# Altium footprint library Electrolytic Capacitor.PcbLib: 26 footprints (part 1 of 2)
Each footprint in its own frame and in the unit in brackets; x right, y up, seen from the top. Pads: shape width x height; smd on the part's side, far side on the other; paste and mask are expansions set on the pad; w line width, h text height; cw(c..) or ccw(c..) is an arc to the next point about the centre after c.
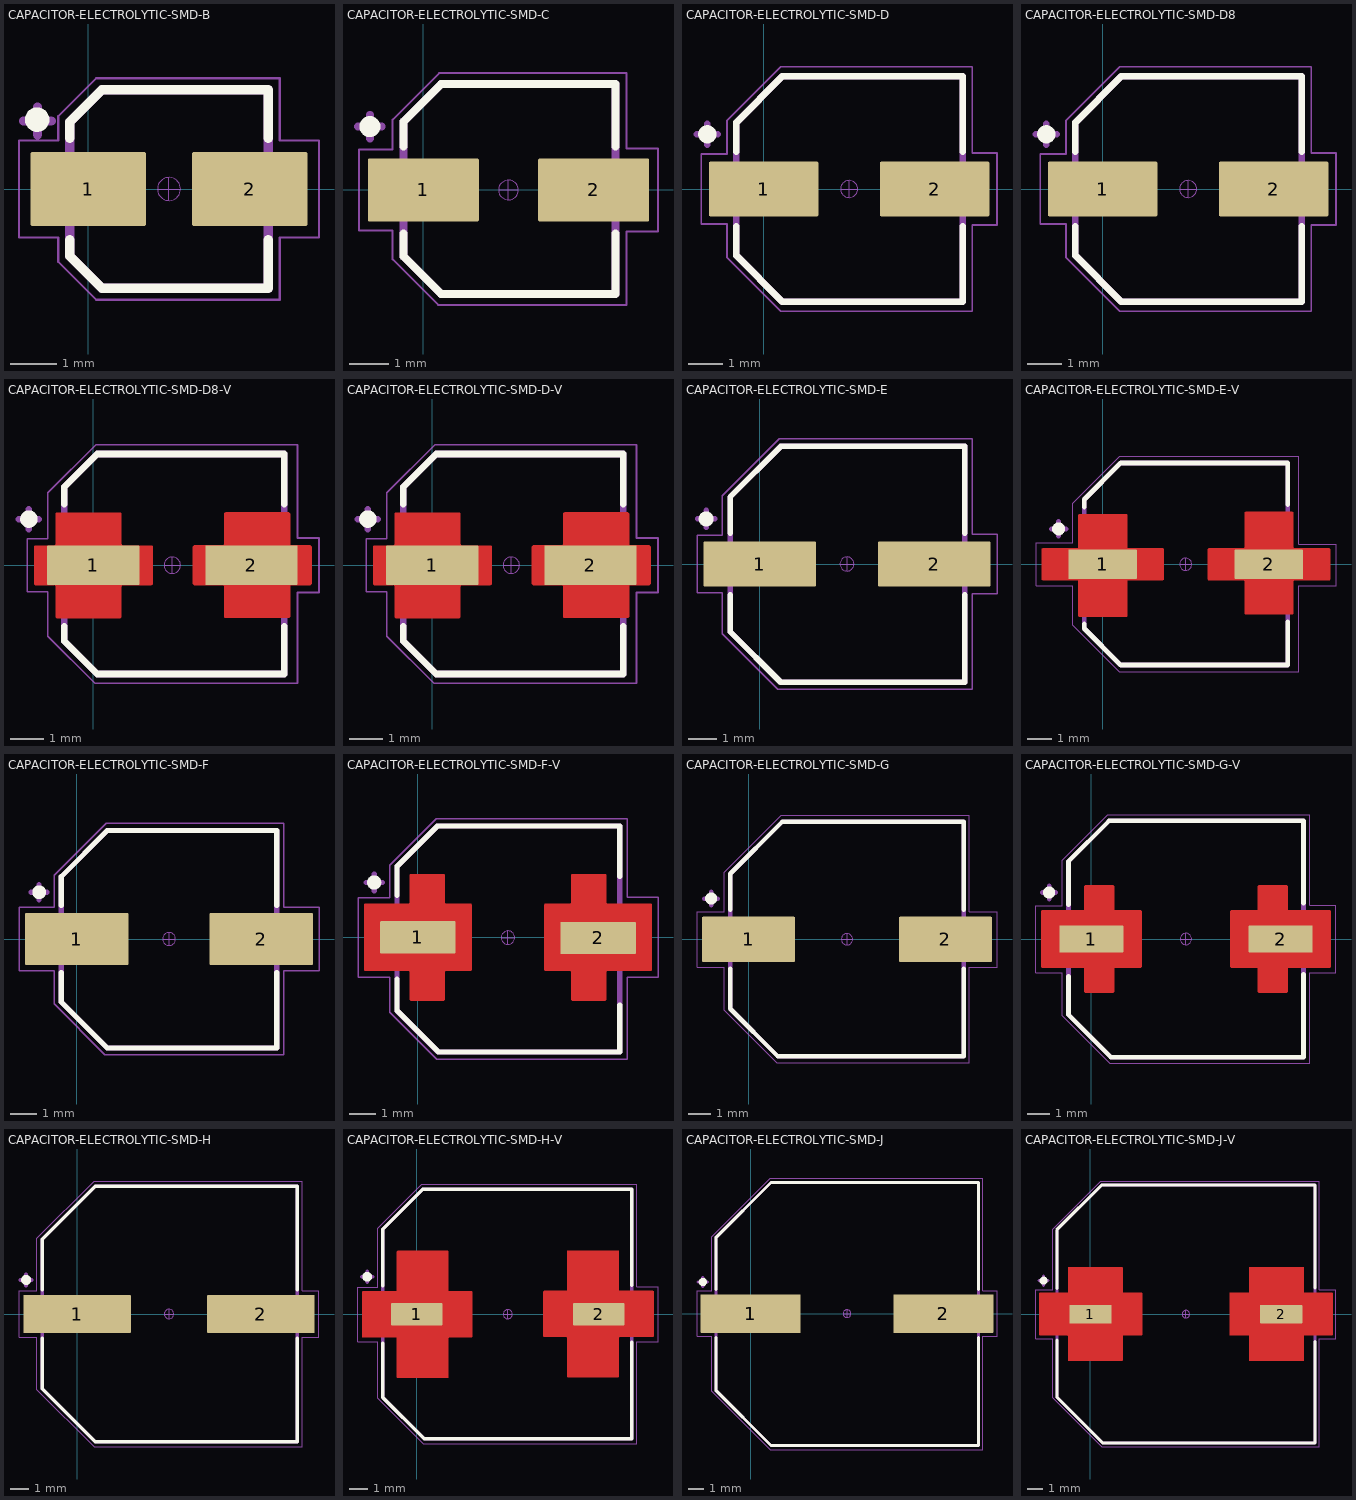
[diagram p0: the footprints below, top view; thin cyan lines are the x and y axes]

## CAPACITOR-ELECTROLYTIC-SMD-B [mm] "Electrolytic Capacitor SMD Size B ( ? 4mm )"
height 5.405
pads (2):
  rrect5% 2.5x1.6 smd mask+0.05: 1(0,0) 2(3.5,0)
Top Overlay:
  circle w0.27: c-1.105,1.503 r0.13
  lines w0.2: -0.4,-1.1 -0.4,-1.45 0.3,-2.15 3.9,-2.15 3.9,-1.1 ; -0.4,1.1 -0.4,1.45 0.3,2.15 3.9,2.15 3.9,1.1
Top Component Outline:
  lines w0.2: -1.4,1.475 -0.8,1.475 ; -1.1,1.175 -1.1,1.775 ; -0.4,-1.45 0.3,-2.15 3.9,-2.15 3.9,2.15 0.3,2.15 -0.4,1.45 -0.4,-1.45
  text "'.Comment'" at -0.476,-1.927 h1
Top Courtyard:
  lines w0.05: -1.5,-1.05 -1.5,1.05 -0.65,1.05 -0.65,1.575 0.175,2.4 4.15,2.4 4.15,1.05 5,1.05 5,-1.05 4.15,-1.05 4.15,-2.4 0.175,-2.4 -0.65,-1.575 -0.65,-1.05 -1.5,-1.05
Top Component Center:
  circle w0.012: c1.75,0 r0.25
  lines w0.012: 1.5,0 1.75,0 ; 1.75,-0.25 1.75,0 ; 1.75,0.25 1.75,0 ; 2,0 1.75,0
Top Designator:
  text "'.Designator'" at -0.692,-0.224 h1
Top Assembly (Mech16):
  lines w0.2: -1.4,1.475 -0.8,1.475 ; -1.1,1.175 -1.1,1.775 ; -0.4,-1.45 0.3,-2.15 3.9,-2.15 3.9,2.15 0.3,2.15 -0.4,1.45 -0.4,-1.45
  text "'.Designator'" at -0.692,-0.224 h1
3D body "CAPACITOR-B.step": height 5.41, standoff -0.01, extent -0.55,-2.15 4.05,2.15

## CAPACITOR-ELECTROLYTIC-SMD-C [mm] "Electrolytic Capacitor SMD Size C ( ? 5mm )"
height 5.405
pads (2):
  rrect5% 2.8x1.6 smd mask+0.05: 1(0,0) 2(4.3,0)
Top Overlay:
  circle w0.27: c-1.35,1.6 r0.13
  lines w0.2: -0.5,-1.1 -0.5,-1.675 0.45,-2.625 4.85,-2.625 4.85,-1.1 ; -0.5,1.1 -0.5,1.725 0.45,2.675 4.85,2.675 4.85,1.1
Top Component Outline:
  lines w0.2: -1.65,1.6 -1.05,1.6 ; -1.35,1.3 -1.35,1.9 ; -0.5,-1.675 -0.5,1.725 0.45,2.675 4.85,2.675 4.85,-2.625 0.45,-2.625 -0.5,-1.675
  text "'.Comment'" at -0.076,-1.927 h1
Top Courtyard:
  lines w0.05: -1.625,-1.025 -0.775,-1.025 -0.775,-1.75 0.375,-2.9 5.125,-2.9 5.125,-1.05 5.925,-1.05 5.925,1.05 5.125,1.05 5.125,2.95 0.4,2.95 -0.775,1.775 -0.775,1.025 -1.625,1.025 -1.625,-1.025
Top Component Center:
  circle w0.012: c2.15,0 r0.25
  lines w0.012: 1.9,0 2.15,0 ; 2.15,-0.25 2.15,0 ; 2.15,0.25 2.15,0 ; 2.4,0 2.15,0
Top Designator:
  text "'.Designator'" at -0.292,-0.224 h1
Top Assembly (Mech16):
  lines w0.2: -1.65,1.6 -1.05,1.6 ; -1.35,1.3 -1.35,1.9 ; -0.5,-1.675 -0.5,1.725 0.45,2.675 4.85,2.675 4.85,-2.625 0.45,-2.625 -0.5,-1.675
  text "'.Designator'" at -0.292,-0.224 h1
3D body "CAPACITOR-C.step": height 5.41, standoff -0.01, extent -0.8,-2.65 5.1,2.65

## CAPACITOR-ELECTROLYTIC-SMD-D [mm] "Electrolytic Capacitor SMD Size D ( ? 6.3mm )"
height 5.405
pads (2):
  rrect5% 3.2x1.6 smd mask+0.05: 1(0,0) 2(5,0)
Top Overlay:
  circle w0.27: c-1.65,1.6 r0.13
  lines w0.2: -0.8,-1.1 -0.8,-1.95 0.55,-3.3 5.825,-3.3 5.825,-1.1 ; -0.8,1.1 -0.8,1.95 0.55,3.3 5.825,3.3 5.825,1.1
Top Component Outline:
  lines w0.2: -1.95,1.6 -1.35,1.6 ; -1.65,1.3 -1.65,1.9 ; -0.8,-1.95 -0.8,1.95 0.55,3.3 5.825,3.3 5.825,-3.3 0.55,-3.3 -0.8,-1.95
  text "'.Comment'" at 0.274,-2.677 h1
Top Courtyard:
  lines w0.05: -1.825,-1.025 -1.075,-1.025 -1.075,-2 0.5,-3.575 6.1,-3.575 6.1,-1.05 6.825,-1.05 6.825,1.05 6.1,1.05 6.1,3.575 0.5,3.575 -1.075,2 -1.075,1.025 -1.825,1.025 -1.825,-1.025
Top Component Center:
  circle w0.012: c2.5,0 r0.25
  lines w0.012: 2.25,0 2.5,0 ; 2.5,-0.25 2.5,0 ; 2.5,0.25 2.5,0 ; 2.75,0 2.5,0
Top Designator:
  text "'.Designator'" at 0.058,-0.224 h1
Top Assembly (Mech16):
  lines w0.2: -1.95,1.6 -1.35,1.6 ; -1.65,1.3 -1.65,1.9 ; -0.8,-1.95 0.55,-3.3 5.825,-3.3 5.825,3.3 0.55,3.3 -0.8,1.95 -0.8,-1.95
  text "'.Designator'" at 0.058,-0.224 h1
3D body "CAPACITOR-D.step": height 5.41, standoff -0.01, extent -1,-3.3 6,3.3

## CAPACITOR-ELECTROLYTIC-SMD-D8 [mm] "Electrolytic Capacitor SMD Size D8 ( ? 6.3mm x 7.7mm L )"
height 7.705
pads (2):
  rrect5% 3.2x1.6 smd mask+0.05: 1(0,0) 2(5,0)
Top Overlay:
  circle w0.27: c-1.65,1.6 r0.13
  lines w0.2: -0.8,-1.1 -0.8,-1.95 0.55,-3.3 5.825,-3.3 5.825,-1.1 ; -0.8,1.1 -0.8,1.95 0.55,3.3 5.825,3.3 5.825,1.1
Top Component Outline:
  lines w0.2: -1.95,1.6 -1.35,1.6 ; -1.65,1.3 -1.65,1.9 ; -0.8,-1.95 0.55,-3.3 5.825,-3.3 5.825,3.3 0.55,3.3 -0.8,1.95 -0.8,-1.95
  text "'.Comment'" at 0.274,-2.677 h1
Top Courtyard:
  lines w0.05: -1.825,-1.025 -1.825,1.025 -1.075,1.025 -1.075,2 0.5,3.575 6.1,3.575 6.1,1.05 6.825,1.05 6.825,-1.05 6.1,-1.05 6.1,-3.575 0.5,-3.575 -1.075,-2 -1.075,-1.025 -1.825,-1.025
Top Component Center:
  circle w0.012: c2.5,0 r0.25
  lines w0.012: 2.25,0 2.5,0 ; 2.5,-0.25 2.5,0 ; 2.5,0.25 2.5,0 ; 2.75,0 2.5,0
Top Designator:
  text "'.Designator'" at 0.058,-0.224 h1
Top Assembly (Mech16):
  lines w0.2: -1.95,1.6 -1.35,1.6 ; -1.65,1.3 -1.65,1.9 ; -0.8,-1.95 0.55,-3.3 5.825,-3.3 5.825,3.3 0.55,3.3 -0.8,1.95 -0.8,-1.95
  text "'.Designator'" at 0.058,-0.224 h1
3D body "CAPACITOR-D8.step": height 7.71, standoff -0.01, extent -1,-3.3 6,3.3

## CAPACITOR-ELECTROLYTIC-SMD-D8-V [mm] "Electrolytic Capacitor SMD Size D8 Anti-Vibration ( ? 6.3mm x 8.0mm L )"
height 8.001
pads (2):
  rrect5% 2.8x1.2 smd mask+0.05: 1(0,0) 2(4.8,0)
Top Layer:
  region: 3.075,0.6 3.925,0.6 3.935,0.601 3.953,0.608 3.967,0.622 3.974,0.64 3.975,0.65 3.975,1.55 3.975,1.56 3.983,1.578 3.997,1.592 4.015,1.6 4.025,1.6 5.925,1.6 5.935,1.6 5.953,1.592 5.967,1.578 5.975,1.56 5.975,1.55 5.975,0.65 5.976,0.64 5.983,0.622 5.997,0.608 6.015,0.601 6.025,0.6 6.575,0.6 6.585,0.6 6.603,0.592 6.617,0.578 6.625,0.56 6.625,0.55 6.625,-0.55 6.625,-0.56 6.617,-0.578 6.603,-0.592 6.585,-0.6 6.575,-0.6 6.025,-0.6 6.015,-0.601 5.997,-0.608 5.983,-0.622 5.976,-0.64 5.975,-0.65 5.975,-1.55 5.975,-1.56 5.967,-1.578 5.953,-1.592 5.935,-1.6 5.925,-1.6 4.025,-1.6 4.015,-1.6 3.997,-1.592 3.983,-1.578 3.975,-1.56 3.975,-1.55 3.975,-0.65 3.974,-0.64 3.967,-0.622 3.953,-0.608 3.935,-0.601 3.925,-0.6 3.075,-0.6 3.065,-0.6 3.047,-0.592 3.033,-0.578 3.025,-0.56 3.025,-0.55 3.025,0.55 3.025,0.56 3.033,0.578 3.047,0.592 3.065,0.6
  region: 1.758,-0.603 0.908,-0.603 0.899,-0.604 0.881,-0.611 0.867,-0.625 0.859,-0.643 0.858,-0.653 0.858,-1.553 0.858,-1.563 0.851,-1.581 0.837,-1.595 0.818,-1.603 0.808,-1.603 -1.092,-1.603 -1.102,-1.603 -1.12,-1.595 -1.134,-1.581 -1.142,-1.563 -1.142,-1.553 -1.142,-0.653 -1.143,-0.643 -1.15,-0.625 -1.164,-0.611 -1.182,-0.604 -1.192,-0.603 -1.742,-0.603 -1.752,-0.603 -1.77,-0.595 -1.784,-0.581 -1.792,-0.563 -1.792,-0.553 -1.792,0.547 -1.792,0.557 -1.784,0.576 -1.77,0.59 -1.752,0.597 -1.742,0.597 -1.192,0.597 -1.182,0.598 -1.164,0.606 -1.15,0.619 -1.143,0.637 -1.142,0.647 -1.142,1.547 -1.142,1.557 -1.134,1.576 -1.12,1.59 -1.102,1.597 -1.092,1.597 0.808,1.597 0.818,1.597 0.837,1.59 0.851,1.576 0.858,1.557 0.858,1.547 0.858,0.647 0.859,0.637 0.867,0.619 0.881,0.606 0.899,0.598 0.908,0.597 1.758,0.597 1.768,0.597 1.787,0.59 1.801,0.576 1.808,0.557 1.808,0.547 1.808,-0.553 1.808,-0.563 1.801,-0.581 1.787,-0.595 1.768,-0.603
Top Overlay:
  circle w0.27: c-1.95,1.4 r0.13
  lines w0.2: -0.875,-1.85 -0.875,-2.3 0.125,-3.3 5.8,-3.3 5.8,-1.85 ; -0.875,1.85 -0.875,2.375 0.125,3.375 5.8,3.375 5.8,1.85
Top Component Outline:
  lines w0.2: -2.25,1.4 -1.65,1.4 ; -1.95,1.1 -1.95,1.7 ; -0.875,-2.3 0.125,-3.3 5.8,-3.3 5.8,3.375 0.125,3.375 -0.875,2.375 -0.875,-2.3
  text "'.Comment'" at 0.174,-2.677 h1
Top Courtyard:
  lines w0.05: -2,-0.8 -2,0.8 -1.375,0.8 -1.375,2.2 0.075,3.65 6.2,3.65 6.2,0.825 6.85,0.825 6.85,-0.825 6.2,-0.825 6.2,-3.575 0.05,-3.575 -1.375,-2.15 -1.375,-0.8 -2,-0.8
Top Component Center:
  circle w0.012: c2.4,0 r0.25
  lines w0.012: 2.15,0 2.4,0 ; 2.4,-0.25 2.4,0 ; 2.4,0.25 2.4,0 ; 2.65,0 2.4,0
Top Designator:
  text "'.Designator'" at -0.042,-0.224 h1
Top Assembly (Mech16):
  lines w0.2: -2.25,1.4 -1.65,1.4 ; -1.95,1.1 -1.95,1.7 ; -0.875,-2.3 0.125,-3.3 5.8,-3.3 5.8,3.375 0.125,3.375 -0.875,2.375 -0.875,-2.3
  text "'.Designator'" at -0.042,-0.224 h1
3D body "CAPACITOR-D8-V.stp": height 8, standoff 0, extent -1.25,-3.3 6.05,3.3

## CAPACITOR-ELECTROLYTIC-SMD-D-V [mm] "Electrolytic Capacitor SMD Size D Anti-Vibration ( ? 6.3mm x 6.1mm L )"
height 6.101
pads (2):
  rrect5% 2.8x1.2 smd mask+0.05: 1(0,0) 2(4.8,0)
Top Layer:
  region: 1.758,-0.603 0.908,-0.603 0.899,-0.604 0.881,-0.611 0.867,-0.625 0.859,-0.643 0.858,-0.653 0.858,-1.553 0.858,-1.563 0.851,-1.581 0.837,-1.595 0.818,-1.603 0.808,-1.603 -1.092,-1.603 -1.102,-1.603 -1.12,-1.595 -1.134,-1.581 -1.142,-1.563 -1.142,-1.553 -1.142,-0.653 -1.143,-0.643 -1.15,-0.625 -1.164,-0.611 -1.182,-0.604 -1.192,-0.603 -1.742,-0.603 -1.752,-0.603 -1.77,-0.595 -1.784,-0.581 -1.792,-0.563 -1.792,-0.553 -1.792,0.547 -1.792,0.557 -1.784,0.576 -1.77,0.59 -1.752,0.597 -1.742,0.597 -1.192,0.597 -1.182,0.598 -1.164,0.606 -1.15,0.619 -1.143,0.637 -1.142,0.647 -1.142,1.547 -1.142,1.557 -1.134,1.576 -1.12,1.59 -1.102,1.597 -1.092,1.597 0.808,1.597 0.818,1.597 0.837,1.59 0.851,1.576 0.858,1.557 0.858,1.547 0.858,0.647 0.859,0.637 0.867,0.619 0.881,0.606 0.899,0.598 0.908,0.597 1.758,0.597 1.768,0.597 1.787,0.59 1.801,0.576 1.808,0.557 1.808,0.547 1.808,-0.553 1.808,-0.563 1.801,-0.581 1.787,-0.595 1.768,-0.603
  region: 3.075,0.6 3.925,0.6 3.935,0.601 3.953,0.608 3.967,0.622 3.974,0.64 3.975,0.65 3.975,1.55 3.975,1.56 3.983,1.578 3.997,1.592 4.015,1.6 4.025,1.6 5.925,1.6 5.935,1.6 5.953,1.592 5.967,1.578 5.975,1.56 5.975,1.55 5.975,0.65 5.976,0.64 5.983,0.622 5.997,0.608 6.015,0.601 6.025,0.6 6.575,0.6 6.585,0.6 6.603,0.592 6.617,0.578 6.625,0.56 6.625,0.55 6.625,-0.55 6.625,-0.56 6.617,-0.578 6.603,-0.592 6.585,-0.6 6.575,-0.6 6.025,-0.6 6.015,-0.601 5.997,-0.608 5.983,-0.622 5.976,-0.64 5.975,-0.65 5.975,-1.55 5.975,-1.56 5.967,-1.578 5.953,-1.592 5.935,-1.6 5.925,-1.6 4.025,-1.6 4.015,-1.6 3.997,-1.592 3.983,-1.578 3.975,-1.56 3.975,-1.55 3.975,-0.65 3.974,-0.64 3.967,-0.622 3.953,-0.608 3.935,-0.601 3.925,-0.6 3.075,-0.6 3.065,-0.6 3.047,-0.592 3.033,-0.578 3.025,-0.56 3.025,-0.55 3.025,0.55 3.025,0.56 3.033,0.578 3.047,0.592 3.065,0.6
Top Overlay:
  circle w0.27: c-1.95,1.4 r0.13
  lines w0.2: -0.875,-1.85 -0.875,-2.3 0.125,-3.3 5.8,-3.3 5.8,-1.85 ; -0.875,1.85 -0.875,2.375 0.125,3.375 5.8,3.375 5.8,1.85
Top Component Outline:
  lines w0.2: -2.25,1.4 -1.65,1.4 ; -1.95,1.1 -1.95,1.7 ; -0.875,-2.3 -0.875,2.375 0.125,3.375 5.8,3.375 5.8,-3.3 0.125,-3.3 -0.875,-2.3
  text "'.Comment'" at 0.174,-2.677 h1
Top Courtyard:
  lines w0.05: -2,-0.8 -1.375,-0.8 -1.375,-2.15 0.05,-3.575 6.2,-3.575 6.2,-0.825 6.85,-0.825 6.85,0.825 6.2,0.825 6.2,3.65 0.075,3.65 -1.375,2.2 -1.375,0.8 -2,0.8 -2,-0.8
Top Component Center:
  circle w0.012: c2.4,0 r0.25
  lines w0.012: 2.15,0 2.4,0 ; 2.4,-0.25 2.4,0 ; 2.4,0.25 2.4,0 ; 2.65,0 2.4,0
Top Designator:
  text "'.Designator'" at -0.042,-0.224 h1
Top Assembly (Mech16):
  lines w0.2: -2.25,1.4 -1.65,1.4 ; -1.95,1.1 -1.95,1.7 ; -0.875,-2.3 -0.875,2.375 0.125,3.375 5.8,3.375 5.8,-3.3 0.125,-3.3 -0.875,-2.3
  text "'.Designator'" at -0.042,-0.224 h1
3D body "CAPACITOR-D-V.stp": height 6.1, standoff 0, extent -1.25,-3.3 6.05,3.3

## CAPACITOR-ELECTROLYTIC-SMD-E [mm] "Electrolytic Capacitor SMD Size E ( ? 8mm x 6.2mm L )"
height 6.205
pads (2):
  rrect5% 4x1.6 smd mask+0.05: 1(0,0) 2(6.2,0)
Top Overlay:
  circle w0.27: c-1.9,1.6 r0.13
  lines w0.2: -1.05,-1.1 -1.05,-2.4 0.75,-4.2 7.275,-4.2 7.275,-1.1 ; -1.05,1.1 -1.05,2.375 0.75,4.175 7.275,4.175 7.275,1.1
Top Component Outline:
  lines w0.2: -2.2,1.6 -1.6,1.6 ; -1.9,1.3 -1.9,1.9 ; -1.05,-2.4 -1.05,2.375 0.75,4.175 7.275,4.175 7.275,-4.2 0.75,-4.2 -1.05,-2.4
  text "'.Comment'" at 0.874,-3.302 h1
Top Courtyard:
  lines w0.05: -2.225,-1.025 -1.325,-1.025 -1.325,-2.475 0.65,-4.45 7.55,-4.45 7.55,-1.05 8.425,-1.05 8.425,1.05 7.55,1.05 7.55,4.45 0.7,4.45 -1.325,2.425 -1.325,1.025 -2.225,1.025 -2.225,-1.025
Top Component Center:
  circle w0.012: c3.1,0 r0.25
  lines w0.012: 2.85,0 3.1,0 ; 3.1,-0.25 3.1,0 ; 3.1,0.25 3.1,0 ; 3.35,0 3.1,0
Top Designator:
  text "'.Designator'" at 0.058,-0.224 h1
Top Assembly (Mech16):
  lines w0.2: -2.2,1.6 -1.6,1.6 ; -1.9,1.3 -1.9,1.9 ; -1.05,-2.4 -1.05,2.375 0.75,4.175 7.275,4.175 7.275,-4.2 0.75,-4.2 -1.05,-2.4
  text "'.Designator'" at 0.658,-0.224 h1
3D body "CAPACITOR-E.step": height 6.2, standoff -0.01, extent -1.4,-4.15 7.6,4.15

## CAPACITOR-ELECTROLYTIC-SMD-E-V [mm] "Electrolytic Capacitor SMD Size E Anti-Vibration ( ? 8mm x 6.5mm L )"
height 6.501
pads (2):
  rrect5% 2.8x1.2 smd mask+0.05: 1(0,0) 2(6.8,0)
Top Layer:
  region: 9.258,0.647 7.858,0.647 7.849,0.648 7.831,0.656 7.817,0.669 7.809,0.687 7.808,0.697 7.808,2.097 7.808,2.107 7.801,2.126 7.787,2.14 7.768,2.147 7.758,2.147 5.858,2.147 5.848,2.147 5.83,2.14 5.816,2.126 5.808,2.107 5.808,2.097 5.808,0.697 5.807,0.687 5.8,0.669 5.786,0.656 5.768,0.648 5.758,0.647 4.358,0.647 4.348,0.647 4.33,0.64 4.316,0.626 4.308,0.607 4.308,0.597 4.308,-0.603 4.308,-0.613 4.316,-0.631 4.33,-0.645 4.348,-0.653 4.358,-0.653 5.758,-0.653 5.768,-0.654 5.786,-0.661 5.8,-0.675 5.807,-0.693 5.808,-0.703 5.808,-2.003 5.808,-2.013 5.816,-2.031 5.83,-2.045 5.848,-2.053 5.858,-2.053 7.758,-2.053 7.768,-2.053 7.787,-2.045 7.801,-2.031 7.808,-2.013 7.808,-2.003 7.808,-0.703 7.809,-0.693 7.817,-0.675 7.831,-0.661 7.849,-0.654 7.858,-0.653 9.258,-0.653 9.268,-0.653 9.287,-0.645 9.301,-0.631 9.308,-0.613 9.308,-0.603 9.308,0.597 9.308,0.607 9.301,0.626 9.287,0.64 9.268,0.647
  region: -2.442,-0.647 -1.042,-0.647 -1.032,-0.648 -1.014,-0.656 -1,-0.669 -0.993,-0.687 -0.992,-0.697 -0.992,-2.097 -0.992,-2.107 -0.984,-2.126 -0.97,-2.14 -0.952,-2.147 -0.942,-2.147 0.958,-2.147 0.968,-2.147 0.987,-2.14 1.001,-2.126 1.008,-2.107 1.008,-2.097 1.008,-0.697 1.009,-0.687 1.017,-0.669 1.031,-0.656 1.049,-0.648 1.058,-0.647 2.458,-0.647 2.468,-0.647 2.487,-0.64 2.501,-0.626 2.508,-0.607 2.508,-0.597 2.508,0.603 2.508,0.613 2.501,0.631 2.487,0.645 2.468,0.653 2.458,0.653 1.058,0.653 1.049,0.654 1.031,0.661 1.017,0.675 1.009,0.693 1.008,0.703 1.008,2.003 1.008,2.013 1.001,2.031 0.987,2.045 0.968,2.053 0.958,2.053 -0.942,2.053 -0.952,2.053 -0.97,2.045 -0.984,2.031 -0.992,2.013 -0.992,2.003 -0.992,0.703 -0.993,0.693 -1,0.675 -1.014,0.661 -1.032,0.654 -1.042,0.653 -2.442,0.653 -2.452,0.653 -2.47,0.645 -2.484,0.631 -2.492,0.613 -2.492,0.603 -2.492,-0.597 -2.492,-0.607 -2.484,-0.626 -2.47,-0.64 -2.452,-0.647
Top Overlay:
  circle w0.27: c-1.8,1.45 r0.13
  lines w0.2: -0.75,-2.45 -0.75,-2.625 0.75,-4.125 7.575,-4.125 7.575,-2.35 ; -0.75,2.35 -0.75,2.65 0.75,4.15 7.575,4.15 7.575,2.45
Top Component Outline:
  lines w0.2: -2.1,1.45 -1.5,1.45 ; -1.8,1.15 -1.8,1.75 ; -0.75,-2.625 0.75,-4.125 7.575,-4.125 7.575,4.15 0.75,4.15 -0.75,2.65 -0.75,-2.625
  text "'.Comment'" at 1.174,-3.552 h1
Top Courtyard:
  lines w0.05: -2.725,-0.875 -2.725,0.875 -1.225,0.875 -1.225,2.5 0.7,4.425 8.025,4.425 8.025,0.825 9.55,0.825 9.55,-0.875 8.025,-0.875 8.025,-4.4 0.675,-4.4 -1.225,-2.5 -1.225,-0.875 -2.725,-0.875
Top Component Center:
  circle w0.012: c3.4,0 r0.25
  lines w0.012: 3.15,0 3.4,0 ; 3.4,-0.25 3.4,0 ; 3.4,0.25 3.4,0 ; 3.65,0 3.4,0
Top Designator:
  text "'.Designator'" at 0.908,-0.224 h1
Top Assembly (Mech16):
  lines w0.2: -2.1,1.45 -1.5,1.45 ; -1.8,1.15 -1.8,1.75 ; -0.75,-2.625 0.75,-4.125 7.575,-4.125 7.575,4.15 0.75,4.15 -0.75,2.65 -0.75,-2.625
  text "'.Designator'" at 0.908,-0.224 h1
3D body "CAPACITOR-E-V.stp": height 6.5, standoff 0, extent -1.1,-4.15 7.9,4.15

## CAPACITOR-ELECTROLYTIC-SMD-F [mm] "Electrolytic Capacitor SMD Size F ( ? 8mm x 10.2mm L )"
height 10.205
pads (2):
  rrect5% 4x2 smd mask+0.05: 1(0,0) 2(7.1,0)
Top Overlay:
  circle w0.27: c-1.45,1.8 r0.13
  lines w0.2: -0.6,-1.3 -0.6,-2.425 1.175,-4.2 7.7,-4.2 7.7,-1.3 ; -0.6,1.3 -0.6,2.4 1.175,4.175 7.7,4.175 7.7,1.3
Top Component Outline:
  lines w0.2: -1.75,1.8 -1.15,1.8 ; -1.45,1.5 -1.45,2.1 ; -0.6,-2.425 -0.6,2.4 1.175,4.175 7.7,4.175 7.7,-4.2 1.175,-4.2 -0.6,-2.425
  text "'.Comment'" at 1.324,-3.377 h1
Top Courtyard:
  lines w0.05: -2.225,-1.225 -2.225,1.225 -0.875,1.225 -0.875,2.45 1.125,4.45 7.975,4.45 7.975,1.225 9.325,1.225 9.325,-1.225 7.975,-1.225 7.975,-4.45 1.075,-4.45 -0.875,-2.5 -0.875,-1.225 -2.225,-1.225
Top Component Center:
  circle w0.012: c3.55,0 r0.25
  lines w0.012: 3.3,0 3.55,0 ; 3.55,-0.25 3.55,0 ; 3.55,0.25 3.55,0 ; 3.8,0 3.55,0
Top Designator:
  text "'.Designator'" at 1.108,-0.224 h1
Top Assembly (Mech16):
  lines w0.2: -1.75,1.8 -1.15,1.8 ; -1.45,1.5 -1.45,2.1 ; -0.6,-2.425 -0.6,2.4 1.175,4.175 7.7,4.175 7.7,-4.2 1.175,-4.2 -0.6,-2.425
  text "'.Designator'" at 1.108,-0.224 h1
3D body "CAPACITOR-F.step": height 10.21, standoff -0.01, extent -1.4,-4.15 8.5,4.15

## CAPACITOR-ELECTROLYTIC-SMD-F-V [mm] "Electrolytic Capacitor SMD Size F Anti-Vibration ( ? 8mm x 10.5mm L )"
height 10.501
pads (2):
  rrect5% 2.8x1.2 smd mask+0.05: 1(0,0) 2(6.7,-0.025)
Top Layer:
  region: 1,-1.3 1.001,-1.29 1.008,-1.272 1.022,-1.258 1.04,-1.251 1.05,-1.25 1.95,-1.25 1.96,-1.25 1.978,-1.242 1.992,-1.228 2,-1.21 2,-1.2 2,1.2 2,1.21 1.992,1.228 1.978,1.242 1.96,1.25 1.95,1.25 1.05,1.25 1.04,1.251 1.022,1.258 1.008,1.272 1.001,1.29 1,1.3 1,2.3 1,2.31 0.992,2.328 0.978,2.342 0.96,2.35 0.95,2.35 -0.25,2.35 -0.26,2.35 -0.278,2.342 -0.292,2.328 -0.3,2.31 -0.3,2.3 -0.3,1.3 -0.301,1.29 -0.308,1.272 -0.322,1.258 -0.34,1.251 -0.35,1.25 -1.95,1.25 -1.96,1.25 -1.978,1.242 -1.992,1.228 -2,1.21 -2,1.2 -2,-1.2 -2,-1.21 -1.992,-1.228 -1.978,-1.242 -1.96,-1.25 -1.95,-1.25 -0.35,-1.25 -0.34,-1.251 -0.322,-1.258 -0.308,-1.272 -0.301,-1.29 -0.3,-1.3 -0.3,-2.3 -0.3,-2.31 -0.292,-2.328 -0.278,-2.342 -0.26,-2.35 -0.25,-2.35 0.95,-2.35 0.96,-2.35 0.978,-2.342 0.992,-2.328 1,-2.31 1,-2.3
  region: 5.7,1.3 5.699,1.29 5.692,1.272 5.678,1.258 5.66,1.251 5.65,1.25 4.75,1.25 4.74,1.25 4.722,1.242 4.708,1.228 4.7,1.21 4.7,1.2 4.7,-1.2 4.7,-1.21 4.708,-1.228 4.722,-1.242 4.74,-1.25 4.75,-1.25 5.65,-1.25 5.66,-1.251 5.678,-1.258 5.692,-1.272 5.699,-1.29 5.7,-1.3 5.7,-2.3 5.7,-2.31 5.708,-2.328 5.722,-2.342 5.74,-2.35 5.75,-2.35 6.95,-2.35 6.96,-2.35 6.978,-2.342 6.992,-2.328 7,-2.31 7,-2.3 7,-1.3 7.001,-1.29 7.008,-1.272 7.022,-1.258 7.04,-1.251 7.05,-1.25 8.65,-1.25 8.66,-1.25 8.678,-1.242 8.692,-1.228 8.7,-1.21 8.7,-1.2 8.7,1.2 8.7,1.21 8.692,1.228 8.678,1.242 8.66,1.25 8.65,1.25 7.05,1.25 7.04,1.251 7.022,1.258 7.008,1.272 7.001,1.29 7,1.3 7,2.3 7,2.31 6.992,2.328 6.978,2.342 6.96,2.35 6.95,2.35 5.75,2.35 5.74,2.35 5.722,2.342 5.708,2.328 5.7,2.31 5.7,2.3
Top Overlay:
  circle w0.27: c-1.625,2.037 r0.13
  lines w0.2: -0.775,-1.563 -0.775,-2.725 0.762,-4.263 7.5,-4.263 7.5,-2.525 ; -0.775,1.562 -0.775,2.637 0.725,4.137 7.5,4.137 7.5,2.275
Top Component Outline:
  lines w0.2: -1.925,2.037 -1.325,2.037 ; -1.625,1.737 -1.625,2.337 ; -0.775,-2.713 -0.775,2.637 0.725,4.137 7.5,4.137 7.5,-4.263 0.775,-4.263 -0.775,-2.713
  text "'.Comment'" at 1.124,-3.74 h1
Top Courtyard:
  lines w0.05: -2.225,-1.488 -1.05,-1.488 -1.05,-2.788 0.7,-4.538 7.775,-4.538 7.775,-1.488 8.925,-1.488 8.925,1.487 7.775,1.487 7.775,4.412 0.675,4.412 -1.05,2.688 -1.05,1.462 -2.225,1.462 -2.225,-1.488
Top Component Center:
  circle w0.012: c3.35,-0.013 r0.25
  lines w0.012: 3.1,-0.013 3.35,-0.013 ; 3.35,-0.263 3.35,-0.013 ; 3.35,0.237 3.35,-0.013 ; 3.6,-0.013 3.35,-0.013
Top Designator:
  text "'.Designator'" at 0.908,-0.236 h1
Top Assembly (Mech16):
  lines w0.2: -1.925,2.037 -1.325,2.037 ; -1.625,1.737 -1.625,2.337 ; -0.775,-2.738 -0.775,2.637 0.725,4.137 7.5,4.137 7.5,-4.263 0.75,-4.263 -0.775,-2.738
  text "'.Designator'" at 0.908,-0.236 h1
3D body "CAPACITOR-F-V.stp": height 10.5, standoff 0, extent -1.5,-4.163 8.2,4.137

## CAPACITOR-ELECTROLYTIC-SMD-G [mm] "Electrolytic Capacitor SMD Size G ( ? 10mm x 10.2mm L )"
height 10.205
pads (2):
  rrect5% 4.1x2 smd mask+0.05: 1(0,0) 2(8.7,0)
Top Overlay:
  circle w0.27: c-1.65,1.8 r0.13
  lines w0.2: -0.8,-1.3 -0.8,-3.075 1.3,-5.175 9.475,-5.175 ; -0.8,1.3 -0.8,2.9 1.5,5.2 9.475,5.2 ; 9.5,-5.175 9.5,-1.3 ; 9.5,1.3 9.5,5.2
Top Component Outline:
  lines w0.2: -1.95,1.8 -1.35,1.8 ; -1.65,1.5 -1.65,2.1 ; 9.475,-5.175 1.3,-5.175 -0.8,-3.075 -0.8,2.9 1.5,5.2 9.475,5.2 ; 9.5,-5.175 9.5,5.2
  text "'.Comment'" at 2.124,-3.402 h1
Top Courtyard:
  lines w0.05: -2.275,-1.225 -2.275,1.225 -1.075,1.225 -1.075,2.95 1.45,5.475 9.75,5.475 9.75,1.225 10.975,1.225 10.975,-1.225 9.75,-1.225 9.75,-5.45 1.25,-5.45 -1.075,-3.125 -1.075,-1.225 -2.275,-1.225
Top Component Center:
  circle w0.012: c4.35,0 r0.25
  lines w0.012: 4.1,0 4.35,0 ; 4.35,-0.25 4.35,0 ; 4.35,0.25 4.35,0 ; 4.6,0 4.35,0
Top Designator:
  text "'.Designator'" at 1.908,-0.224 h1
Top Assembly (Mech16):
  lines w0.2: -1.95,1.8 -1.35,1.8 ; -1.65,1.5 -1.65,2.1 ; 9.475,-5.175 1.3,-5.175 -0.8,-3.075 -0.8,2.9 1.5,5.2 9.475,5.2 ; 9.5,-5.175 9.5,5.2
  text "'.Designator'" at 1.908,-0.224 h1
3D body "CAPACITOR-G.step": height 10.21, standoff -0.01, extent -1.45,-5.15 10.15,5.15

## CAPACITOR-ELECTROLYTIC-SMD-G-V [mm] "Electrolytic Capacitor SMD Size G Anti-Vibration ( ? 10mm )"
height 10.501
pads (2):
  rrect5% 2.8x1.2 smd mask+0.05: 1(0,0) 2(8.3,0)
Top Layer:
  region: 6.15,1.25 7.25,1.25 7.26,1.251 7.278,1.258 7.292,1.272 7.299,1.29 7.3,1.3 7.3,2.3 7.3,2.31 7.308,2.328 7.322,2.342 7.34,2.35 7.35,2.35 8.55,2.35 8.56,2.35 8.578,2.342 8.592,2.328 8.6,2.31 8.6,2.3 8.6,1.3 8.601,1.29 8.608,1.272 8.622,1.258 8.64,1.251 8.65,1.25 10.45,1.25 10.46,1.25 10.478,1.242 10.492,1.228 10.5,1.21 10.5,1.2 10.5,-1.2 10.5,-1.21 10.492,-1.228 10.478,-1.242 10.46,-1.25 10.45,-1.25 8.65,-1.25 8.64,-1.251 8.622,-1.258 8.608,-1.272 8.601,-1.29 8.6,-1.3 8.6,-2.3 8.6,-2.31 8.592,-2.328 8.578,-2.342 8.56,-2.35 8.55,-2.35 7.35,-2.35 7.34,-2.35 7.322,-2.342 7.308,-2.328 7.3,-2.31 7.3,-2.3 7.3,-1.3 7.299,-1.29 7.292,-1.272 7.278,-1.258 7.26,-1.251 7.25,-1.25 6.15,-1.25 6.14,-1.25 6.122,-1.242 6.108,-1.228 6.1,-1.21 6.1,-1.2 6.1,1.2 6.1,1.21 6.108,1.228 6.122,1.242 6.14,1.25
  region: -0.3,2.3 -0.3,1.3 -0.301,1.29 -0.308,1.272 -0.322,1.258 -0.34,1.251 -0.35,1.25 -2.15,1.25 -2.16,1.25 -2.178,1.242 -2.192,1.228 -2.2,1.21 -2.2,1.2 -2.2,-1.2 -2.2,-1.21 -2.192,-1.228 -2.178,-1.242 -2.16,-1.25 -2.15,-1.25 -0.35,-1.25 -0.34,-1.251 -0.322,-1.258 -0.308,-1.272 -0.301,-1.29 -0.3,-1.3 -0.3,-2.3 -0.3,-2.31 -0.292,-2.328 -0.278,-2.342 -0.26,-2.35 -0.25,-2.35 0.95,-2.35 0.96,-2.35 0.978,-2.342 0.992,-2.328 1,-2.31 1,-2.3 1,-1.3 1.001,-1.29 1.008,-1.272 1.022,-1.258 1.04,-1.251 1.05,-1.25 2.15,-1.25 2.16,-1.25 2.178,-1.242 2.192,-1.228 2.2,-1.21 2.2,-1.2 2.2,1.2 2.2,1.21 2.192,1.228 2.178,1.242 2.16,1.25 2.15,1.25 1.05,1.25 1.04,1.251 1.022,1.258 1.008,1.272 1.001,1.29 1,1.3 1,2.3 1,2.31 0.992,2.328 0.978,2.342 0.96,2.35 0.95,2.35 -0.25,2.35 -0.26,2.35 -0.278,2.342 -0.292,2.328 -0.3,2.31
Top Overlay:
  circle w0.27: c-1.85,2.037 r0.13
  lines w0.2: -1,-1.625 -1,-3.325 0.85,-5.175 9.3,-5.175 9.3,-1.55 ; -1,1.5 -1,3.4 0.775,5.175 9.3,5.175 9.3,1.575
Top Component Outline:
  lines w0.2: -2.15,2.037 -1.55,2.037 ; -1.85,1.737 -1.85,2.337 ; -1,-3.325 0.85,-5.175 9.3,-5.175 9.3,5.175 0.775,5.175 -1,3.4 -1,-3.325
  text "'.Comment'" at 1.924,-4.452 h1
Top Courtyard:
  lines w0.05: -2.425,-1.475 -2.425,1.462 -1.275,1.462 -1.275,3.45 0.725,5.45 9.575,5.45 9.575,1.475 10.725,1.475 10.725,-1.475 9.575,-1.475 9.575,-5.45 0.8,-5.45 -1.275,-3.375 -1.275,-1.475 -2.425,-1.475
Top Component Center:
  circle w0.012: c4.15,0 r0.25
  lines w0.012: 3.9,0 4.15,0 ; 4.15,-0.25 4.15,0 ; 4.15,0.25 4.15,0 ; 4.4,0 4.15,0
Top Designator:
  text "'.Designator'" at 1.708,-0.224 h1
Top Assembly (Mech16):
  lines w0.2: -2.15,2.037 -1.55,2.037 ; -1.85,1.737 -1.85,2.337 ; -1,-3.325 0.85,-5.175 9.3,-5.175 9.3,5.175 0.775,5.175 -1,3.4 -1,-3.325
  text "'.Designator'" at 1.708,-0.224 h1
3D body "CAPACITOR-G-V.stp": height 10.5, standoff 0, extent -1.7,-5.15 10,5.15

## CAPACITOR-ELECTROLYTIC-SMD-H [mm] "Electrolytic Capacitor SMD Size H ( ? 12.5mm )"
height 13.502
pads (2):
  rrect5% 5.7x2 smd mask+0.05: 1(0,0) 2(9.7,0)
Top Overlay:
  circle w0.27: c-2.7,1.8 r0.13
  lines w0.2: -1.85,-1.3 -1.85,-3.95 0.95,-6.75 11.625,-6.75 11.625,-1.3 ; -1.85,1.3 -1.85,3.95 0.95,6.75 11.625,6.75 11.625,1.3
Top Component Outline:
  lines w0.2: -3,1.8 -2.4,1.8 ; -2.7,1.5 -2.7,2.1 ; -1.85,-3.95 0.95,-6.75 11.625,-6.75 11.625,6.75 0.95,6.75 -1.85,3.95 -1.85,-3.95
  text "'.Comment'" at 2.624,-5.927 h1
Top Courtyard:
  lines w0.05: -3.075,-1.225 -2.125,-1.225 -2.125,-4 0.9,-7.025 11.9,-7.025 11.9,-1.225 12.775,-1.225 12.775,1.225 11.9,1.225 11.9,7.025 0.9,7.025 -2.125,4 -2.125,1.225 -3.075,1.225 -3.075,-1.225
Top Component Center:
  circle w0.012: c4.85,0 r0.25
  lines w0.012: 4.6,0 4.85,0 ; 4.85,-0.25 4.85,0 ; 4.85,0.25 4.85,0 ; 5.1,0 4.85,0
Top Designator:
  text "'.Designator'" at 2.408,-0.224 h1
Top Assembly (Mech16):
  lines w0.2: -3,1.8 -2.4,1.8 ; -2.7,1.5 -2.7,2.1 ; -1.85,-3.95 0.95,-6.75 11.625,-6.75 11.625,6.75 0.95,6.75 -1.85,3.95 -1.85,-3.95
  text "'.Designator'" at 2.408,-0.224 h1
3D body "CAPACITOR-H13.step": height 13.5, standoff -0.01, extent -2.05,-6.75 11.75,6.75

## CAPACITOR-ELECTROLYTIC-SMD-H-V [mm] "Electrolytic Capacitor SMD Size H Anti-Vibration ( ? 12.5mm )"
height 13.801
pads (2):
  rrect5% 2.8x1.2 smd mask+0.102: 1(0,0) 2(9.9,0)
Top Layer:
  region: 6.94,1.265 8.14,1.265 8.15,1.266 8.168,1.274 8.182,1.288 8.189,1.306 8.19,1.315 8.19,3.415 8.19,3.425 8.198,3.444 8.212,3.458 8.23,3.465 8.24,3.465 10.94,3.465 10.95,3.465 10.969,3.458 10.983,3.444 10.99,3.425 10.99,3.415 10.99,1.315 10.991,1.306 10.999,1.288 11.013,1.274 11.031,1.266 11.04,1.265 12.84,1.265 12.85,1.265 12.869,1.258 12.883,1.244 12.89,1.225 12.89,1.215 12.89,-1.185 12.89,-1.195 12.883,-1.213 12.869,-1.227 12.85,-1.235 12.84,-1.235 11.04,-1.235 11.031,-1.236 11.013,-1.243 10.999,-1.257 10.991,-1.275 10.99,-1.285 10.99,-3.385 10.99,-3.395 10.983,-3.413 10.969,-3.427 10.95,-3.435 10.94,-3.435 8.24,-3.435 8.23,-3.435 8.212,-3.427 8.198,-3.413 8.19,-3.395 8.19,-3.385 8.19,-1.285 8.189,-1.275 8.182,-1.257 8.168,-1.243 8.15,-1.236 8.14,-1.235 6.94,-1.235 6.93,-1.235 6.912,-1.227 6.898,-1.213 6.89,-1.195 6.89,-1.185 6.89,1.215 6.89,1.225 6.898,1.244 6.912,1.258 6.93,1.265
  region: 2.972,-1.258 1.772,-1.258 1.762,-1.259 1.744,-1.267 1.731,-1.281 1.723,-1.299 1.722,-1.308 1.722,-3.408 1.722,-3.418 1.715,-3.437 1.701,-3.451 1.682,-3.458 1.672,-3.458 -1.028,-3.458 -1.038,-3.458 -1.056,-3.451 -1.07,-3.437 -1.078,-3.418 -1.078,-3.408 -1.078,-1.308 -1.079,-1.299 -1.086,-1.281 -1.1,-1.267 -1.118,-1.259 -1.128,-1.258 -2.928,-1.258 -2.938,-1.258 -2.956,-1.251 -2.97,-1.237 -2.978,-1.218 -2.978,-1.208 -2.978,1.192 -2.978,1.202 -2.97,1.22 -2.956,1.234 -2.938,1.242 -2.928,1.242 -1.128,1.242 -1.118,1.243 -1.1,1.25 -1.086,1.264 -1.079,1.282 -1.078,1.292 -1.078,3.392 -1.078,3.402 -1.07,3.42 -1.056,3.434 -1.038,3.442 -1.028,3.442 1.672,3.442 1.682,3.442 1.701,3.434 1.715,3.42 1.722,3.402 1.722,3.392 1.722,1.292 1.723,1.282 1.731,1.264 1.744,1.25 1.762,1.243 1.772,1.242 2.972,1.242 2.982,1.242 3.001,1.234 3.015,1.22 3.022,1.202 3.022,1.192 3.022,-1.208 3.022,-1.218 3.015,-1.237 3.001,-1.251 2.982,-1.258
Top Overlay:
  circle w0.27: c-2.7,2.037 r0.13
  lines w0.2: -1.85,-1.575 -1.85,-4.525 0.4,-6.775 11.7,-6.775 11.7,-1.525 ; -1.85,1.55 -1.85,4.625 0.325,6.8 11.7,6.8 11.7,1.575
Top Component Outline:
  lines w0.2: -3,2.037 -2.4,2.037 ; -2.7,1.737 -2.7,2.337 ; -1.85,-4.525 0.4,-6.775 11.7,-6.775 11.7,6.8 0.325,6.8 -1.85,4.625 -1.85,-4.525
  text "'.Comment'" at 2.724,-5.752 h1
Top Courtyard:
  lines w0.05: -3.2,-1.5 -3.2,1.475 -2.125,1.475 -2.125,4.675 0.275,7.075 11.975,7.075 11.975,1.5 13.125,1.5 13.125,-1.5 11.975,-1.5 11.975,-7.05 0.35,-7.05 -2.125,-4.575 -2.125,-1.5 -3.2,-1.5
Top Component Center:
  circle w0.012: c4.95,0 r0.25
  lines w0.012: 4.7,0 4.95,0 ; 4.95,-0.25 4.95,0 ; 4.95,0.25 4.95,0 ; 5.2,0 4.95,0
Top Designator:
  text "'.Designator'" at 2.508,-0.224 h1
Top Assembly (Mech16):
  lines w0.2: -3,2.037 -2.4,2.037 ; -2.7,1.737 -2.7,2.337 ; -1.85,-4.525 -1.85,4.625 0.325,6.8 11.7,6.8 11.7,-6.775 0.4,-6.775 -1.85,-4.525
  text "'.Designator'" at 2.508,-0.224 h1
3D body "CAPACITOR-H13-V.stp": height 13.8, standoff 0, extent -2.5,-6.75 12.4,6.75

## CAPACITOR-ELECTROLYTIC-SMD-J [mm] "Electrolytic Capacitor SMD Size J ( ? 16mm )"
height 16.502
pads (2):
  rrect5% 6.5x2.5 smd mask+0.05: 1(0,0) 2(12.5,0)
Top Overlay:
  circle w0.27: c-3.1,2.05 r0.13
  lines w0.2: -2.25,-1.55 -2.25,-4.975 1.325,-8.55 14.775,-8.55 14.775,-1.55 ; -2.25,1.55 -2.25,4.925 1.325,8.5 14.775,8.5 14.775,1.55
Top Component Outline:
  lines w0.2: -3.4,2.05 -2.8,2.05 ; -3.1,1.75 -3.1,2.35 ; -2.25,-4.975 1.325,-8.55 14.775,-8.55 14.775,8.5 1.325,8.5 -2.25,4.925 -2.25,-4.975
  text "'.Comment'" at 4.024,-7.552 h1
Top Courtyard:
  lines w0.05: -3.475,-1.475 -2.525,-1.475 -2.525,-5.025 1.275,-8.825 15.05,-8.825 15.05,-1.475 15.975,-1.475 15.975,1.475 15.05,1.475 15.05,8.775 1.275,8.775 -2.525,4.975 -2.525,1.475 -3.475,1.475 -3.475,-1.475
Top Component Center:
  circle w0.012: c6.25,0 r0.25
  lines w0.012: 6,0 6.25,0 ; 6.25,-0.25 6.25,0 ; 6.25,0.25 6.25,0 ; 6.5,0 6.25,0
Top Designator:
  text "'.Designator'" at 3.808,-0.224 h1
Top Assembly (Mech16):
  lines w0.2: -3.4,2.05 -2.8,2.05 ; -3.1,1.75 -3.1,2.35 ; -2.25,-4.975 1.325,-8.55 14.775,-8.55 14.775,8.5 1.325,8.5 -2.25,4.925 -2.25,-4.975
  text "'.Designator'" at 3.808,-0.224 h1
3D body "CAPACITOR-J16.step": height 16.5, standoff -0.01, extent -2.6,-8.525 15.1,8.475

## CAPACITOR-ELECTROLYTIC-SMD-J-V [mm] "Electrolytic Capacitor SMD Size J Anti-Vibration ( ? 16mm )"
height 16.801
pads (2):
  rrect5% 2.8x1.2 smd mask+0.05: 1(0,0) 2(12.6,0)
Top Layer:
  region: 2.122,-3.042 2.122,-1.442 2.123,-1.432 2.131,-1.414 2.144,-1.4 2.162,-1.393 2.172,-1.392 3.372,-1.392 3.382,-1.392 3.401,-1.384 3.415,-1.37 3.422,-1.352 3.422,-1.342 3.422,1.358 3.422,1.368 3.415,1.387 3.401,1.401 3.382,1.408 3.372,1.408 2.172,1.408 2.162,1.409 2.144,1.417 2.131,1.431 2.123,1.449 2.122,1.458 2.122,3.058 2.122,3.068 2.115,3.087 2.101,3.101 2.082,3.108 2.072,3.108 -1.428,3.108 -1.438,3.108 -1.456,3.101 -1.47,3.087 -1.478,3.068 -1.478,3.058 -1.478,1.458 -1.479,1.449 -1.486,1.431 -1.5,1.417 -1.518,1.409 -1.528,1.408 -3.328,1.408 -3.338,1.408 -3.356,1.401 -3.37,1.387 -3.378,1.368 -3.378,1.358 -3.378,-1.342 -3.378,-1.352 -3.37,-1.37 -3.356,-1.384 -3.338,-1.392 -3.328,-1.392 -1.528,-1.392 -1.518,-1.393 -1.5,-1.4 -1.486,-1.414 -1.479,-1.432 -1.478,-1.442 -1.478,-3.042 -1.478,-3.052 -1.47,-3.07 -1.456,-3.084 -1.438,-3.092 -1.428,-3.092 2.072,-3.092 2.082,-3.092 2.101,-3.084 2.115,-3.07 2.122,-3.052
  region: 14.097,-3.042 14.097,-1.442 14.098,-1.432 14.106,-1.414 14.119,-1.4 14.137,-1.393 14.147,-1.392 15.947,-1.392 15.957,-1.392 15.976,-1.384 15.99,-1.37 15.997,-1.352 15.997,-1.342 15.997,1.358 15.997,1.368 15.99,1.387 15.976,1.401 15.957,1.408 15.947,1.408 14.147,1.408 14.137,1.409 14.119,1.417 14.106,1.431 14.098,1.449 14.097,1.458 14.097,3.058 14.097,3.068 14.09,3.087 14.076,3.101 14.057,3.108 14.047,3.108 10.547,3.108 10.537,3.108 10.519,3.101 10.505,3.087 10.497,3.068 10.497,3.058 10.497,1.458 10.496,1.449 10.489,1.431 10.475,1.417 10.457,1.409 10.447,1.408 9.247,1.408 9.237,1.408 9.219,1.401 9.205,1.387 9.197,1.368 9.197,1.358 9.197,-1.342 9.197,-1.352 9.205,-1.37 9.219,-1.384 9.237,-1.392 9.247,-1.392 10.447,-1.392 10.457,-1.393 10.475,-1.4 10.489,-1.414 10.496,-1.432 10.497,-1.442 10.497,-3.042 10.497,-3.052 10.505,-3.07 10.519,-3.084 10.537,-3.092 10.547,-3.092 14.047,-3.092 14.057,-3.092 14.076,-3.084 14.09,-3.07 14.097,-3.052
Top Overlay:
  circle w0.27: c-3.1,2.212 r0.13
  lines w0.2: -2.225,-1.7 -2.225,-5.475 0.8,-8.5 14.85,-8.5 14.85,-1.813 ; -2.225,1.7 -2.225,5.575 0.725,8.525 14.85,8.525 14.85,1.725
Top Component Outline:
  lines w0.2: -3.4,2.212 -2.8,2.212 ; -3.1,1.912 -3.1,2.512 ; -2.225,-5.475 -2.225,5.575 0.725,8.525 14.85,8.525 14.85,-8.5 0.8,-8.5 -2.225,-5.475
  text "'.Comment'" at 4.074,-7.002 h1
Top Courtyard:
  lines w0.05: -3.6,-1.625 -2.5,-1.625 -2.5,-5.525 0.75,-8.775 15.125,-8.775 15.125,-1.625 16.225,-1.625 16.225,1.625 15.125,1.625 15.125,8.8 0.675,8.8 -2.5,5.625 -2.5,1.625 -3.6,1.625 -3.6,-1.625
Top Component Center:
  circle w0.012: c6.3,0 r0.25
  lines w0.012: 6.05,0 6.3,0 ; 6.3,-0.25 6.3,0 ; 6.3,0.25 6.3,0 ; 6.55,0 6.3,0
Top Designator:
  text "'.Designator'" at 3.858,-0.224 h1
Top Assembly (Mech16):
  lines w0.2: -3.4,2.212 -2.8,2.212 ; -3.1,1.912 -3.1,2.512 ; -2.225,-5.475 -2.225,5.575 0.725,8.525 14.85,8.525 14.85,-8.5 0.8,-8.5 -2.225,-5.475
  text "'.Designator'" at 3.858,-0.224 h1
3D body "CAPACITOR-J16-V.stp": height 16.8, standoff 0, extent -2.9,-8.5 15.5,8.5